# EAGLE library part MCP4251 (library growbot)
Digital potentiometr
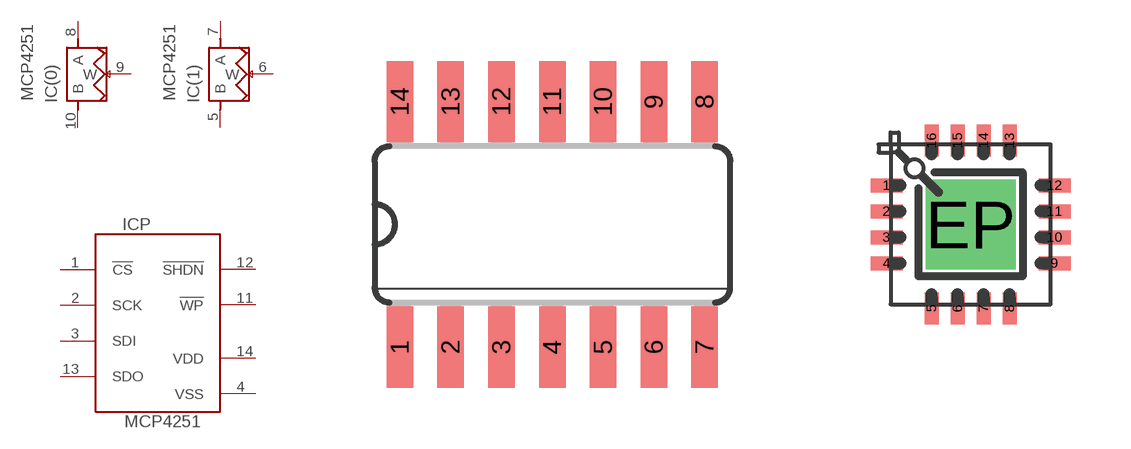
[diagram p4: symbol with the pads of SO14; footprints SO14, QFN16]

Designator prefix IC; gates P=MCP4251 (0)=DIGIPOT (1)=DIGIPOT

## MCP4251_SO14  [SO14]
1  P:!CS
2  P:SCK
3  P:SDI
4  P:VSS
5  (1):B  pas
6  (1):W  pas
7  (1):A  pas
8  (0):A  pas
9  (0):W  pas
10  (0):B  pas
11  P:!WP
12  P:!SHDN
13  P:SDO
14  P:VDD

## MCP4251_QFN16  [QFN16]
1  P:SCK
2  P:SDI
3  P:VSS
4  P:VSS
5  (1):B  pas
6  (1):W  pas
7  (1):A  pas
8  (0):A  pas
9  (0):W  pas
10  (0):B  pas
12  P:!WP
13  P:!SHDN
14  P:SDO
15  P:VDD
16  P:!CS
EP  P:VSS

## Footprint SO14 (pad centres in mm)
SO14
smd 0.66 x 2.032: 1 -3.81,-3.073; 2 -2.54,-3.073; 3 -1.27,-3.073; 4 0,-3.073; 5 1.27,-3.073; 6 2.54,-3.073; 7 3.81,-3.073; 8 3.81,3.073; 9 2.54,3.073; 10 1.27,3.073; 11 0,3.073; 12 -1.27,3.073; 13 -2.54,3.073; 14 -3.81,3.073

## Footprint QFN16 (pad centres in mm)
smd 0.8 x 0.35: 1 -2.1,0.975; 2 -2.1,0.325; 3 -2.1,-0.325; 4 -2.1,-0.975; 9 2.1,-0.975; 10 2.1,-0.325; 11 2.1,0.325; 12 2.1,0.975
smd 0.35 x 0.8: 5 -0.975,-2.1; 6 -0.325,-2.1; 7 0.325,-2.1; 8 0.975,-2.1; 13 0.975,2.1; 14 0.325,2.1; 15 -0.325,2.1; 16 -0.975,2.1
drill 1.5 pad 2.1 square: EP 0,0